# EAGLE library part RFM95_96_97_98W (library BaseApp)
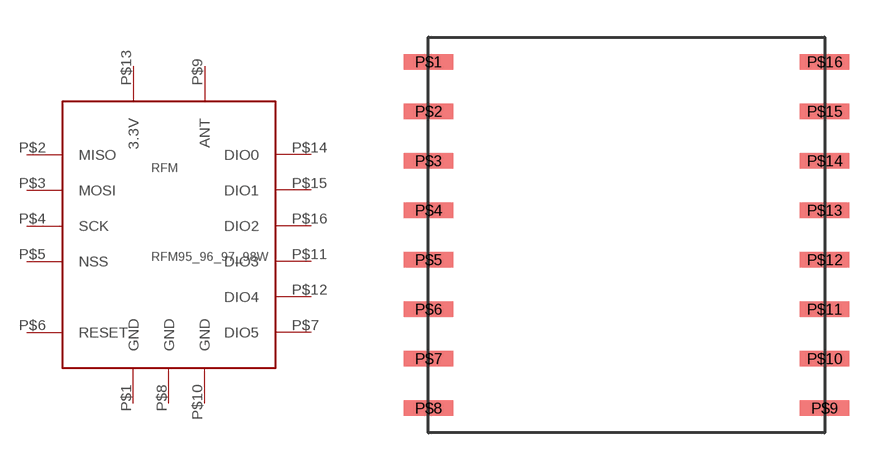
[diagram p157: symbol with the pads of RFM95_96_97_98W; footprint RFM95_96_97_98W]

Designator prefix RFM

## RFM95_96_97_98W  [RFM95_96_97_98W]
P$1  GND  sup
P$2  MISO  in
P$3  MOSI  out
P$4  SCK  in
P$5  NSS  in
P$6  RESET
P$7  DIO5
P$8  GND  sup
P$9  ANT  out
P$10  GND  sup
P$11  DIO3
P$12  DIO4
P$13  3.3V  pwr
P$14  DIO0
P$15  DIO1
P$16  DIO2

## Footprint RFM95_96_97_98W (pad centres in mm)
smd 2 x 0.635: P$1 -8,7; P$2 -8,5; P$3 -8,3; P$4 -8,1; P$5 -8,-1; P$6 -8,-3; P$7 -8,-5; P$8 -8,-7; P$9 8,-7; P$10 8,-5; P$11 8,-3; P$12 8,-1; P$13 8,1; P$14 8,3; P$15 8,5; P$16 8,7